# Altium schematic symbol library Resistor.SchLib: 21 symbols
Pins are listed as number, name and electrical type; pins without a type are passive.

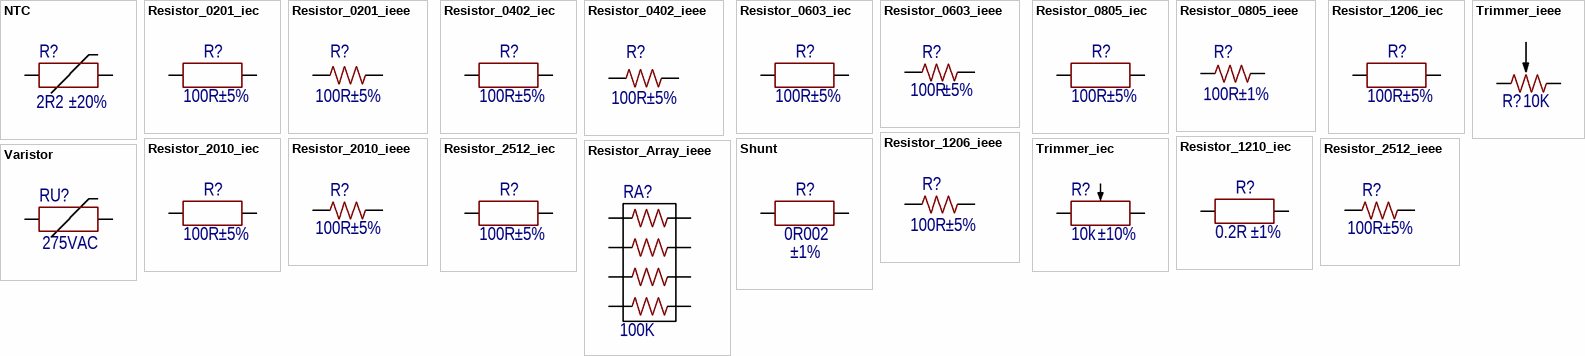
[diagram p0: symbols NTC to Varistor]

## NTC
designator R?  value 2R2  Tolerance: ±20%
Manufacturer: Epcos; PartNumber: B57237S229M54; ValueManufacturerPartNumber: NTC resistor, 2R2, ±20%, pitch 7.5mm, 7A, -55...+125°C; TypeResistor: NTC resistor; MaxCurrent: 7A; Package: pitch 7.5mm; HelpURL: https://www.digikey.com/product-detail/en/epcos-tdk/B57237S229M54/495-76635-1-ND/8126375; Temperature: -55...+125°C
footprint RES: 0201
footprint RES: 0402
footprint RES: 0603
footprint RES: 0805
footprint RES: 1206
footprint RES: B57237 (NTC)
pins: 1, 2

## Resistor_0201_iec
designator R?  value 100R  Tolerance: ±5%
Manufacturer: Yageo; PartNumber: RC0201JR-07100RL; ValueManufacturerPartNumber: Resistor film, 100R, ±5%, 0201, 0.05W, -55...+125°C; TypeResistor: Resistor film; Power: 0.05W; Package: 0201; HelpURL: https://www.digikey.com/product-detail/en/yageo/RC0201JR-07100RL/311-100NCT-ND/1949006; Temperature: -55...+125°C
footprint RES: 0201
pins: 1, 2

## Resistor_0201_ieee
designator R?  value 100R  Tolerance: ±5%
Manufacturer: Yageo; PartNumber: RC0201JR-07100RL; ValueManufacturerPartNumber: Resistor film, 100R, ±5%, 0201, 0.05W, -55...+125°C; TypeResistor: Resistor film; Power: 0.05W; Package: 0201; HelpURL: https://www.digikey.com/product-detail/en/yageo/RC0201JR-07100RL/311-100NCT-ND/1949006; Temperature: -55...+125°C
footprint RES: 0201
pins: 1, 2

## Resistor_0402_iec
designator R?  value 100R  Tolerance: ±5%
Manufacturer: Yageo; PartNumber: RC0402JR-07100RL; ValueManufacturerPartNumber: Resistor film, 100R, ±5%, 0402, 0.063W, -55...+125°C; TypeResistor: Resistor film; Power: 0.063W; Package: 0402; HelpURL: https://www.digikey.com/product-detail/en/yageo/RC0402JR-07100RL/311-100JRCT-ND/729362; Temperature: -55...+125°C
footprint RES: 0402
pins: 1, 2

## Resistor_0402_ieee
designator R?  value 100R  Tolerance: ±5%
Manufacturer: Yageo; PartNumber: RC0402JR-07100RL; ValueManufacturerPartNumber: Resistor film, 100R, ±5%, 0402, 0.063W, -55...+125°C; TypeResistor: Resistor film; Power: 0.063W; Package: 0402; HelpURL: https://www.digikey.com/product-detail/en/yageo/RC0402JR-07100RL/311-100JRCT-ND/729362; Temperature: -55...+125°C
footprint RES: 0402
pins: 1, 2

## Resistor_0603_iec
designator R?  value 100R  Tolerance: ±5%
Manufacturer: Yageo; PartNumber: RC0603JR-07100RL; ValueManufacturerPartNumber: Resistor film, 100R, ±5%, 0603, 0.1W, -55...+125°C; TypeResistor: Resistor film; Power: 0.1W; Package: 0603; HelpURL: https://www.digikey.com/product-detail/en/yageo/RC0603JR-07100RL/311-100GRCT-ND/729644; Temperature: -55...+125°C
footprint RES: 0603
pins: 1, 2

## Resistor_0603_ieee
designator R?  value 100R  Tolerance: ±5%
Manufacturer: Yageo; PartNumber: RC0603JR-07100RL; ValueManufacturerPartNumber: Resistor film, 100R, ±5%, 0603, 0.1W, -55...+125°C; TypeResistor: Resistor film; Power: 0.1W; Package: 0603; HelpURL: https://www.digikey.com/product-detail/en/yageo/RC0603JR-07100RL/311-100GRCT-ND/729644; Temperature: -55...+125°C
footprint RES: 0603
pins: 1, 2

## Resistor_0805_iec
designator R?  value 100R  Tolerance: ±5%
Manufacturer: Yageo; PartNumber: RC0805JR-07100RL; ValueManufacturerPartNumber: Resistor film, 100R, ±5%, 0805, 0.125W, -55...+125°C; TypeResistor: Resistor film; Power: 0.125W; Package: 0805; HelpURL: https://www.digikey.com/product-detail/en/yageo/RC0805JR-07100RL/311-100ARCT-ND/731185; Temperature: -55...+125°C
footprint RES: 0805
pins: 1, 2

## Resistor_0805_ieee
designator R?  value 100R  Tolerance: ±1%
Manufacturer: Yageo; PartNumber: RC0805JR-07100RL; ValueManufacturerPartNumber: Resistor film, 100R, ±1%, 0805, 0.125W, -55...+125°C; TypeResistor: Resistor film; Power: 0.125W; Package: 0805; HelpURL: https://www.digikey.com/product-detail/en/yageo/RC0805JR-07100RL/311-100ARCT-ND/731185; Temperature: -55...+125°C
footprint RES: 0805
pins: 1, 2

## Resistor_1206_iec
designator R?  value 100R  Tolerance: ±5%
Manufacturer: Yageo; PartNumber: RC1206JR-07100RL; ValueManufacturerPartNumber: Resistor film, 100R, ±5%, 1206, 0.25W, -55...+125°C; TypeResistor: Resistor film; Power: 0.25W; Package: 1206; HelpURL: https://www.digikey.com/product-detail/en/yageo/RC1206JR-07100RL/311-100ERCT-ND/732153; Temperature: -55...+125°C
footprint RES: 1206
pins: 1, 2

## Resistor_1206_ieee
designator R?  value 100R  Tolerance: ±5%
Manufacturer: Yageo; PartNumber: RC1206JR-07100RL; ValueManufacturerPartNumber: Resistor film, 100R, ±5%, 1206, 0.25W, -55...+125°C; TypeResistor: Resistor film; Power: 0.25W; Package: 1206; HelpURL: https://www.digikey.com/product-detail/en/yageo/RC1206JR-07100RL/311-100ERCT-ND/732153; Temperature: -55...+125°C
footprint RES: 1206
pins: 1, 2

## Resistor_1210_iec
designator R?  value 0.2R  Tolerance: ±1%
Manufacturer: Yageo; PartNumber: RL1210FR-070R2L; ValueManufacturerPartNumber: Resistor film, 0.2R, ±1%, 1210, 0.5W, -55...+125°C; TypeResistor: Resistor film; Power: 0.5W; Package: 1210; HelpURL: https://www.digikey.com/product-detail/en/yageo/RL1210FR-070R2L/311-0-2NACT-ND/3886121; Temperature: -55...+125°C
footprint RES: 1210
pins: 1, 2

## Resistor_2010_iec
designator R?  value 100R  Tolerance: ±5%
Manufacturer: Yageo; PartNumber: RC2010JK-07100RL; ValueManufacturerPartNumber: Resistor film, 100R, ±5%, 2010, 0.75W, -55...+125°C; TypeResistor: Resistor film; Power: 0.75W; Package: 2010; HelpURL: https://www.digikey.com/product-detail/en/yageo/RC2010JK-07100RL/YAG3381CT-ND/5962203; Temperature: -55...+125°C
footprint RES: 2010
pins: 1, 2

## Resistor_2010_ieee
designator R?  value 100R  Tolerance: ±5%
Manufacturer: Yageo; PartNumber: RC2010JK-07100RL; ValueManufacturerPartNumber: Resistor film, 100R, ±5%, 2010, 0.75W, -55...+125°C; TypeResistor: Resistor film; Power: 0.75W; Package: 2010; HelpURL: https://www.digikey.com/product-detail/en/yageo/RC2010JK-07100RL/YAG3381CT-ND/5962203; Temperature: -55...+125°C
footprint RES: 2010
pins: 1, 2

## Resistor_2512_iec
designator R?  value 100R  Tolerance: ±5%
Manufacturer: Yageo; PartNumber: RC2512JK-07100RL; ValueManufacturerPartNumber: Resistor film, 100R, ±5%, 2512, 1W, -55...+125°C; TypeResistor: Resistor film; Power: 1W; Package: 2512; HelpURL: https://www.digikey.com/product-detail/en/yageo/RC2512JK-07100RL/YAG3393CT-ND/5962215; Temperature: -55...+125°C
footprint RES: 2512
pins: 1, 2

## Resistor_2512_ieee
designator R?  value 100R  Tolerance: ±5%
Manufacturer: Yageo; PartNumber: RC2512JK-07100RL; ValueManufacturerPartNumber: Resistor film, 100R, ±5%, 2512, 1W, -55...+125°C; TypeResistor: Resistor film; Power: 1W; Package: 2512; HelpURL: https://www.digikey.com/product-detail/en/yageo/RC2512JK-07100RL/YAG3393CT-ND/5962215; Temperature: -55...+125°C
footprint RES: 2512
pins: 1, 2

## Resistor_Array_ieee
designator RA?, comment 100K
Volume: 100K
footprint RES_ARRAY: SMD 0603x4
pins: 1, 2, 3, 4, 5, 6, 7, 8

## Shunt
designator R?  value 0R002  Tolerance: ±1%
Manufacturer: Bourns; PartNumber: CSS2H-2512K-2L00F; ValueManufacturerPartNumber: Resistor film, 0R002, ±1%, 2512, 5W, -55...+170°C; TypeResistor: Resistor film; Power: 5W; Package: 2512; HelpURL: https://www.digikey.com/product-detail/en/bourns-inc/CSS2H-2512K-2L00F/CSS2H-2512K-2L00FCT-ND/6023737; Temperature: -55...+170°C
footprint RES: CSS2H (2512)
pins: 1, 2

## Trimmer_iec
designator R?  value 10k  Tolerance: ±10%
Manufacturer: Bourns; PartNumber: 3296W-1-103LF; ValueManufacturerPartNumber: Resistor film, 10k, ±10%, 3296W, 0.5W, -55...+125°C; TypeResistor: Resistor film; Power: 0.5W; Package: 3296W; HelpURL: https://www.digikey.com/product-detail/en/bourns-inc/3296W-1-103LF/3296W-103LF-ND/1088045; Temperature: -55...+125°C
footprint RES: 3296W
footprint RES: 3314G
footprint RES: 3362P
pins: 1, 2, 3

## Trimmer_ieee
designator R?  value 10K
Manufacturer: Bourns; PartNumber: 3296W-1-103LF; ValueManufacturerPartNumber: Resistor film, 10K, ±10%, 3296W, 0.5W, -55...+125°C; TypeResistor: Resistor film; Power: 0.5W; Tolerance: ±10%; Package: 3296W; HelpURL: https://www.digikey.com/product-detail/en/bourns-inc/3296W-1-103LF/3296W-103LF-ND/1088045; Temperature: -55...+125°C
footprint RES: 3296W
footprint RES: 3314G
footprint RES: 3362P
pins: 1, 2, 3

## Varistor
designator RU?  MaxVoltage: 275VAC
Manufacturer: Bourns; PartNumber: MOV-07D431KTR; ValueManufacturerPartNumber: Varistor, 275VAC, pitch 7mm, -55...+125°C; TypeResistor: Varistor; Package: pitch 7mm; HelpURL: https://www.digikey.com/product-detail/en/bourns-inc/MOV-07D431KTR/MOV-07D431KTRCT-ND/4318145; Temperature: -55...+125°C
footprint RES: TMOV20
footprint RES: MOV-07D431K
pins: 1, 2